# Altium footprint library COM-10302.PcbLib: 1 footprints
Each footprint in its own frame and in the unit in brackets; x right, y up, seen from the top. Pads: shape width x height; smd on the part's side, far side on the other; paste and mask are expansions set on the pad; w line width, h text height; cw(c..) or ccw(c..) is an arc to the next point about the centre after c.
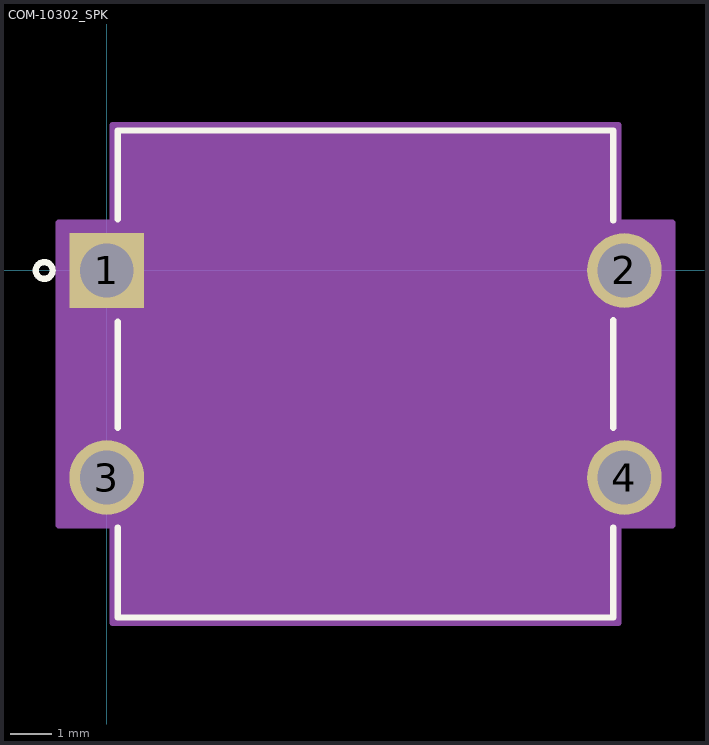
[diagram p0: the footprint, top view; thin cyan lines are the x and y axes]

## COM-10302_SPK [mil]
pads (4):
  rect 71x71 / inner round 60 / far side rect 71x71 hole 51 paste-99999 mask+0: 1(0,0)
  round 71 / inner round 60 / far side round 71 hole 51 paste-99999 mask+0: 2(492.13,0) 3(0,-196.85) 4(492.13,-196.85)
Top Overlay:
  circle w6: c-59.44,0 r8
  lines w6: 10.56,-244.29 10.56,-329.93 481.56,-329.93 481.56,-244.29 ; 10.56,-149.41 10.56,-48.6 ; 10.56,48.6 10.56,133.07 481.56,133.07 481.56,47.44 ; 481.56,-149.41 481.56,-47.44
Mechanical 13:
  circle w0: c246.06,-98.43 r75
  circle w6: c15.56,100 r8
  lines w1: -25.5,-222.35 15.56,-222.35 15.56,-171.35 -25.5,-171.35 -25.5,-222.35 ; -25.5,-25.5 15.56,-25.5 15.56,25.5 -25.5,25.5 -25.5,-25.5 ; 15.56,-324.93 15.56,128.07 476.56,128.07 476.56,-324.93 15.56,-324.93 ; 476.56,-222.35 517.63,-222.35 517.63,-171.35 476.56,-171.35 476.56,-222.35 ; 476.56,-25.5 517.63,-25.5 517.63,25.5 476.56,25.5 476.56,-25.5
Mechanical 15:
  region: 5.56,-242.35 -45.5,-242.35 -45.5,45.5 5.56,45.5 5.56,138.07 486.56,138.07 486.56,45.5 537.63,45.5 537.63,-242.35 486.56,-242.35 486.56,-334.93 5.56,-334.93
  lines w6: -45.5,-242.35 5.56,-242.35 5.56,-334.93 486.56,-334.93 486.56,-242.35 537.63,-242.35 537.63,45.5 486.56,45.5 486.56,138.07 5.56,138.07 5.56,45.5 -45.5,45.5 -45.5,-242.35